# Altium footprint library MT_Module.PcbLib: 21 footprints (part 2 of 2)
Each footprint in its own frame and in the unit in brackets; x right, y up, seen from the top. Pads: shape width x height; smd on the part's side, far side on the other; paste and mask are expansions set on the pad; w line width, h text height; cw(c..) or ccw(c..) is an arc to the next point about the centre after c.
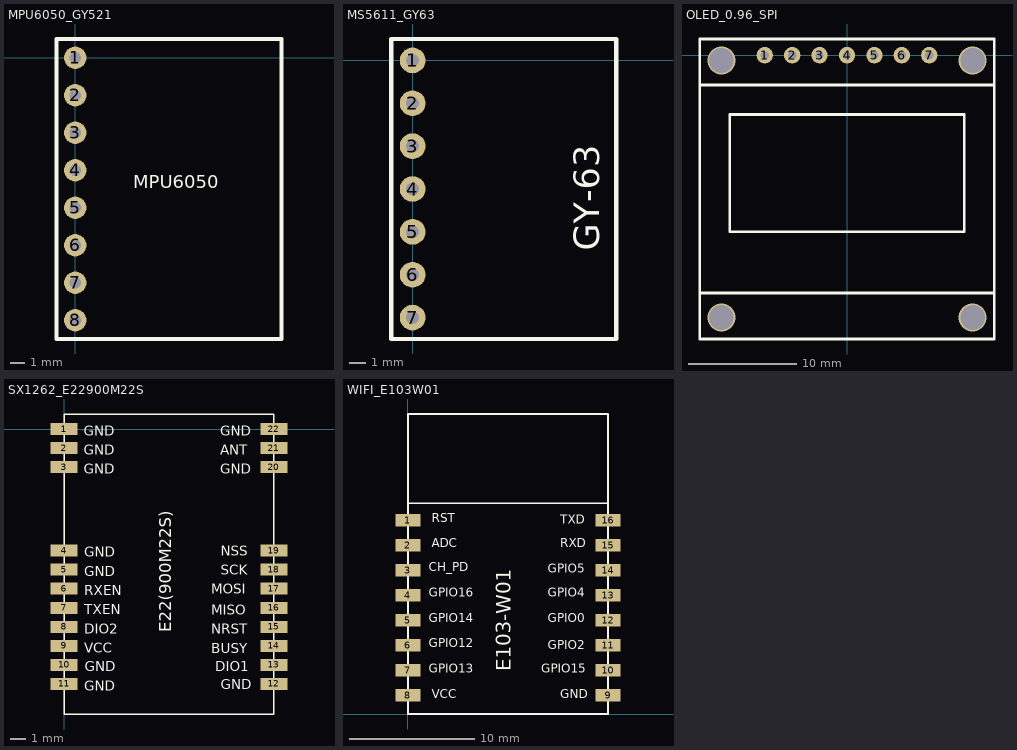
[diagram p1: the footprints below, top view; thin cyan lines are the x and y axes]

## MPU6050_GY521 [mil]
pads (8):
  round 60 hole 30: 1(0,0) 2(0,-100) 3(0,-200) 4(0,-300) 5(0,-400) 6(0,-500) 7(0,-600) 8(0,-700)
Top Overlay:
  lines w10: -50,-750 0,-750 550,-750 550,50 0,50 -50,50 -50,-750
  text "MPU6050" at 155,-360 h60

## MS5611_GY63 [mil]
pads (7):
  round 60 hole 30: 1(0,0) 2(0,-100) 3(0,-200) 4(0,-300) 5(0,-400) 6(0,-500) 7(0,-600)
Top Overlay:
  lines w10: -50,-650 -50,50 475,50 475,-650 -50,-650
  text "GY-63" at 435.04,-444.49 h60

## OLED_0.96_SPI [mil]
pads (7):
  round 60 hole 30: 1(-300,0) 2(-200,0) 3(-100,0) 4(0,0) 5(100,0) 6(200,0) 7(300,0)
via 458.66,-956.69 diameter 102.36 hole 90.55
via -458.66,-956.69 diameter 102.36 hole 90.55
via 458.66,-19.68 diameter 102.36 hole 90.55
via -458.66,-19.68 diameter 102.36 hole 90.55
Top Overlay:
  lines w10: -537.4,-867.48 0,-867.48 537.4,-867.48 ; -537.4,-108.9 0,-108.9 537.4,-108.9 ; -537.4,-1035.43 0,-1035.43 537.4,-1035.43 537.4,59.06 0,59.06 -537.4,59.06 -537.4,-1035.43 ; -428.03,-644.25 -428.03,-216.54 0,-216.54 428.03,-216.54 428.03,-644.25 0,-644.25 -428.03,-644.25

## SX1262_E22900M22S [mm]
pads (22):
  rect 1.8x0.8 smd: 1(0,0) 2(0,-1.27) 3(0,-2.54) 4(0,-8.11) 5(0,-9.38) 6(0,-10.65) 7(0,-11.92) 8(0,-13.19) 9(0,-14.46) 10(0,-15.73) 11(0,-17) 12(14,-17) 13(14,-15.73) 14(14,-14.46) 15(14,-13.19) 16(14,-11.92) 17(14,-10.65) 18(14,-9.38) 19(14,-8.11) 20(14,-2.54) 21(14,-1.27) 22(14,0)
Top Overlay:
  lines w0.1: 0,-19 0,1 14,1 14,-19 0,-19
  text "E22(900M22S)" at 7.142,-13.539 h0.8
  text "NSS" at 10.444,-8.459 h0.65
  text "SCK" at 10.444,-9.729 h0.65
  text "MOSI" at 9.809,-10.999 h0.65
  text "MISO" at 9.809,-12.396 h0.65
  text "NRST" at 9.809,-13.666 h0.65
  text "BUSY" at 9.809,-14.936 h0.65
  text "DIO1" at 10.097,-16.14 h0.65
  text "GND" at 10.444,-17.349 h0.65
  text "GND" at 10.428,-2.996 h0.65
  text "ANT" at 10.428,-1.717 h0.65
  text "GND" at 10.428,-0.438 h0.65
  text "GND" at 1.323,-0.438 h0.65
  text "GND" at 1.323,-1.717 h0.65
  text "GND" at 1.323,-2.996 h0.65
  text "GND" at 1.353,-17.45 h0.65
  text "GND" at 1.373,-16.14 h0.65
  text "VCC" at 1.353,-14.922 h0.65
  text "DIO2" at 1.353,-13.643 h0.65
  text "TXEN" at 1.353,-12.364 h0.65
  text "RXEN" at 1.353,-11.086 h0.65
  text "GND" at 1.353,-9.807 h0.65
  text "GND" at 1.353,-8.528 h0.65

## WIFI_E103W01 [mm]
pads (16):
  rect 2x1 smd: 1(0,15.5) 2(0,13.5) 3(0,11.5) 4(0,9.5) 5(0,7.5) 6(0,5.5) 7(0,3.5) 8(0,1.5) 9(16,1.5) 10(16,3.5) 11(16,5.5) 12(16,7.5) 13(16,9.5) 14(16,11.5) 15(16,13.5) 16(16,15.5)
Top Overlay:
  lines w0.127: 0,16.873 16,16.873 ; 0,0 16,0 16,24 0,24 0,0
  text "GPIO5" at 11.176,11.055 h1.2
  text "GPIO15" at 10.668,3.054 h1.2
  text "GND" at 12.192,1.022 h1.2
  text "GPIO13" at 1.651,3.054 h1.2
  text "GPIO14" at 1.651,7.118 h1.2
  text "GPIO16" at 1.651,9.15 h1.2
  text "ADC" at 1.905,13.087 h1.2
  text "E103-W01" at 8.636,3.435 h2
  text "RST" at 1.905,15.119 h1.2
  text "CH_PD" at 1.651,11.182 h1.2
  text "GPIO12" at 1.651,5.086 h1.2
  text "VCC" at 1.905,1.022 h1.2
  text "GPIO2" at 11.176,4.959 h1.2
  text "GPIO0" at 11.176,7.118 h1.2
  text "GPIO4" at 11.176,9.15 h1.2
  text "RXD" at 12.192,13.087 h1.2
  text "TXD" at 12.192,14.992 h1.2